# EAGLE library part PCA9306DCTR (library PA9306)
VOLTAGE-LEVEL TRANSLATOR
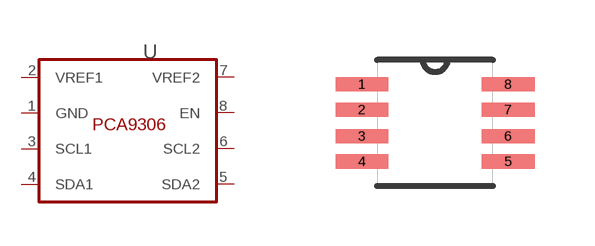
[diagram p0: symbol with the pads of SOP65P400X130-8N; footprint SOP65P400X130-8N]

Designator prefix U

## PCA9306DCTR (MPN: PCA9306DCTR; OC_FARNELL: 1470936; OC_NEWARK: 65J6232; PACKAGE: SOP-8; SUPPLIER: TEXAS INSTRUMENTS)  [SOP65P400X130-8N]
1  GND  pas
2  VREF1  pwr
3  SCL1
4  SDA1
5  SDA2
6  SCL2
7  VREF2  pwr
8  EN  in

## Footprint SOP65P400X130-8N (pad centres in mm)
smd 1.321 x 0.356: 1 -1.829,0.965; 2 -1.829,0.33; 3 -1.829,-0.33; 4 -1.829,-0.965; 5 1.829,-0.965; 6 1.829,-0.33; 7 1.829,0.33; 8 1.829,0.965